# EAGLE library part AD9544 (library Analog Devices)
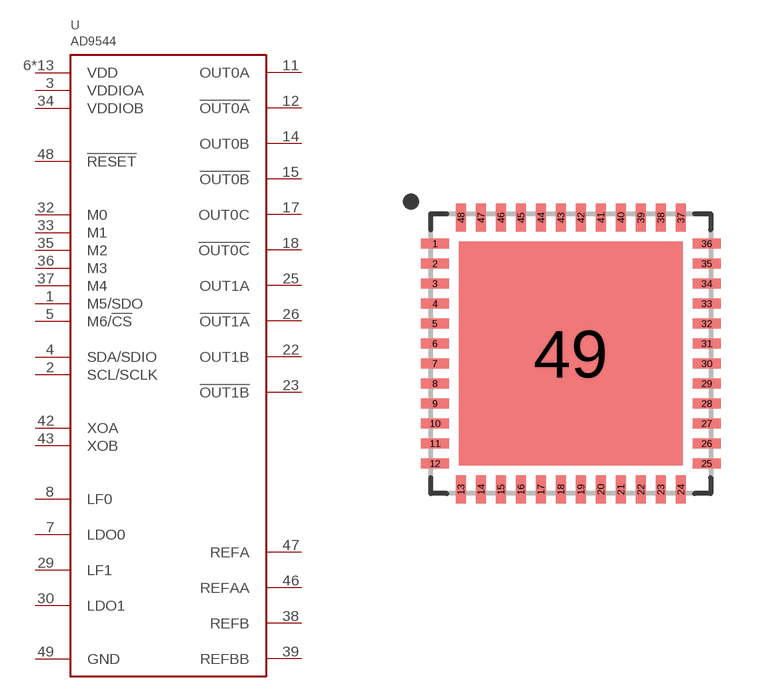
[diagram p50: symbol with the pads of QFN48_2; footprint QFN48_2]

Designator prefix U

## AD9544  [QFN48_2]
1  M5/SDO
2  SCL/SCLK
3  VDDIOA
4  SDA/SDIO
5  M6/!CS
6  VDD
7  LDO0
8  LF0
9  VDD
10  VDD
11  OUT0A
12  !OUT0A
13  VDD
14  OUT0B
15  !OUT0B
17  OUT0C
18  !OUT0C
19  VDD
20  VDD
22  OUT1B
23  !OUT1B
24  VDD
25  OUT1A
26  !OUT1A
27  VDD
28  VDD
29  LF1
30  LDO1
31  VDD
32  M0
33  M1
34  VDDIOB
35  M2
36  M3
37  M4
38  REFB
39  REFBB
40  VDD
41  VDD
42  XOA
43  XOB
45  VDD
46  REFAA
47  REFA
48  !RESET
49  GND

## Footprint QFN48_2 (pad centres in mm)
smd 0.7 x 0.25: 1 -3.4,2.75; 2 -3.4,2.25; 3 -3.4,1.75; 4 -3.4,1.25; 5 -3.4,0.75; 6 -3.4,0.25; 7 -3.4,-0.25; 8 -3.4,-0.75; 9 -3.4,-1.25; 10 -3.4,-1.75; 11 -3.4,-2.25; 12 -3.4,-2.75; 25 3.4,-2.75; 26 3.4,-2.25; 27 3.4,-1.75; 28 3.4,-1.25; 29 3.4,-0.75; 30 3.4,-0.25; 31 3.4,0.25; 32 3.4,0.75; 33 3.4,1.25; 34 3.4,1.75; 35 3.4,2.25; 36 3.4,2.75
smd 0.25 x 0.7: 13 -2.75,-3.4; 14 -2.25,-3.4; 15 -1.75,-3.4; 16 -1.25,-3.4; 17 -0.75,-3.4; 18 -0.25,-3.4; 19 0.25,-3.4; 20 0.75,-3.4; 21 1.25,-3.4; 22 1.75,-3.4; 23 2.25,-3.4; 24 2.75,-3.4; 37 2.75,3.4; 38 2.25,3.4; 39 1.75,3.4; 40 1.25,3.4; 41 0.75,3.4; 42 0.25,3.4; 43 -0.25,3.4; 44 -0.75,3.4; 45 -1.25,3.4; 46 -1.75,3.4; 47 -2.25,3.4; 48 -2.75,3.4
smd 5.6 x 5.6: 49 0,0